# Altium footprint library SOIC-24_300mil.PcbLib: 1 footprints
Each footprint in its own frame and in the unit in brackets; x right, y up, seen from the top. Pads: shape width x height; smd on the part's side, far side on the other; paste and mask are expansions set on the pad; w line width, h text height; cw(c..) or ccw(c..) is an arc to the next point about the centre after c.
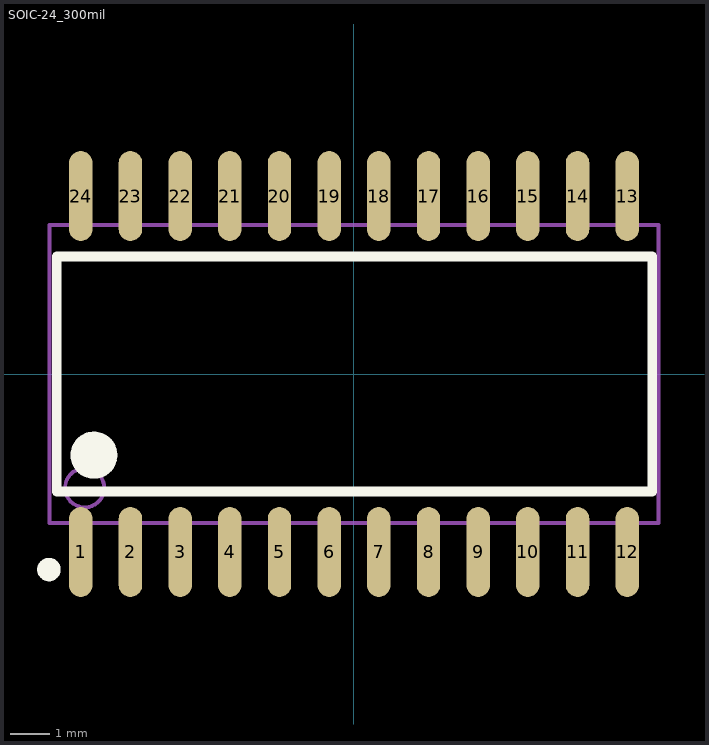
[diagram p0: the footprint, top view; thin cyan lines are the x and y axes]

## SOIC-24_300mil [mm]
pads (24):
  oval 0.6x2.3 smd: 1(-6.985,-4.55) 2(-5.715,-4.55) 3(-4.445,-4.55) 4(-3.175,-4.55) 5(-1.905,-4.55) 6(-0.635,-4.55) 7(0.635,-4.55) 8(1.905,-4.55) 9(3.175,-4.55) 10(4.445,-4.55) 11(5.715,-4.55) 12(6.985,-4.55) 13(6.985,4.55) 14(5.715,4.55) 15(4.445,4.55) 16(3.175,4.55) 17(1.905,4.55) 18(0.635,4.55) 19(-0.635,4.55) 20(-1.905,4.55) 21(-3.175,4.55) 22(-4.445,4.55) 23(-5.715,4.55) 24(-6.985,4.55)
Top Overlay:
  circle w0.3: c-7.8,-5 r0.15
  circle w0.6: c-6.65,-2.075 r0.3
  lines w0.254: -7.6,-3 7.625,-3 7.625,3 -7.6,3 -7.6,-3
Mechanical 13:
  circle w0.1: c-6.885,-2.91 r0.5
  lines w0.1: -7.785,-3.81 7.785,-3.81 7.785,3.81 -7.785,3.81 -7.785,-3.81